# EAGLE library part FH12-8S-0.5SH (library Chromation)
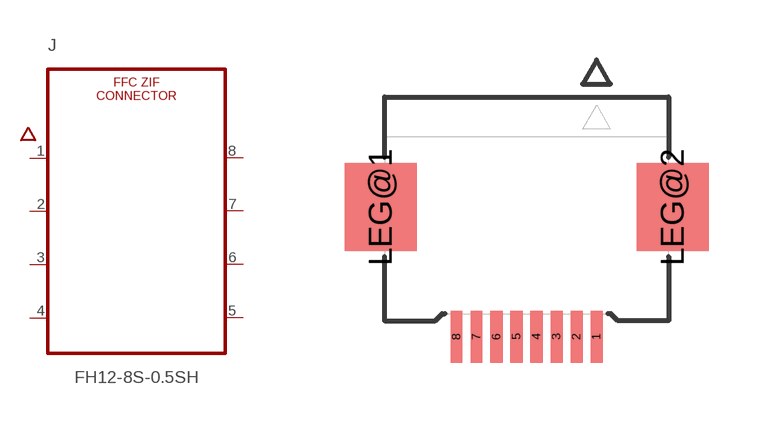
[diagram p2: symbol with the pads of FH12-8S-0.5SH; footprint FH12-8S-0.5SH]

Designator prefix J

## FH12-8S-0.5SH  [FH12-8S-0.5SH]
1  1
2  2
3  3
4  4
5  5
6  6
7  7
8  8
LEG@1  LEG  nc
LEG@2  LEG  nc

## Footprint FH12-8S-0.5SH (pad centres in mm)
smd 0.3 x 1.3: 1 1.75,-3.2; 2 1.25,-3.2; 3 0.75,-3.2; 4 0.25,-3.2; 5 -0.25,-3.2; 6 -0.75,-3.2; 7 -1.25,-3.2; 8 -1.75,-3.2
smd 1.8 x 2.2: LEG@1 -3.65,0.05; LEG@2 3.65,0.05